# Altium footprint library Connector-Header.PcbLib: 107 footprints (part 3 of 7)
Each footprint in its own frame and in the unit in brackets; x right, y up, seen from the top. Pads: shape width x height; smd on the part's side, far side on the other; paste and mask are expansions set on the pad; w line width, h text height; cw(c..) or ccw(c..) is an arc to the next point about the centre after c.
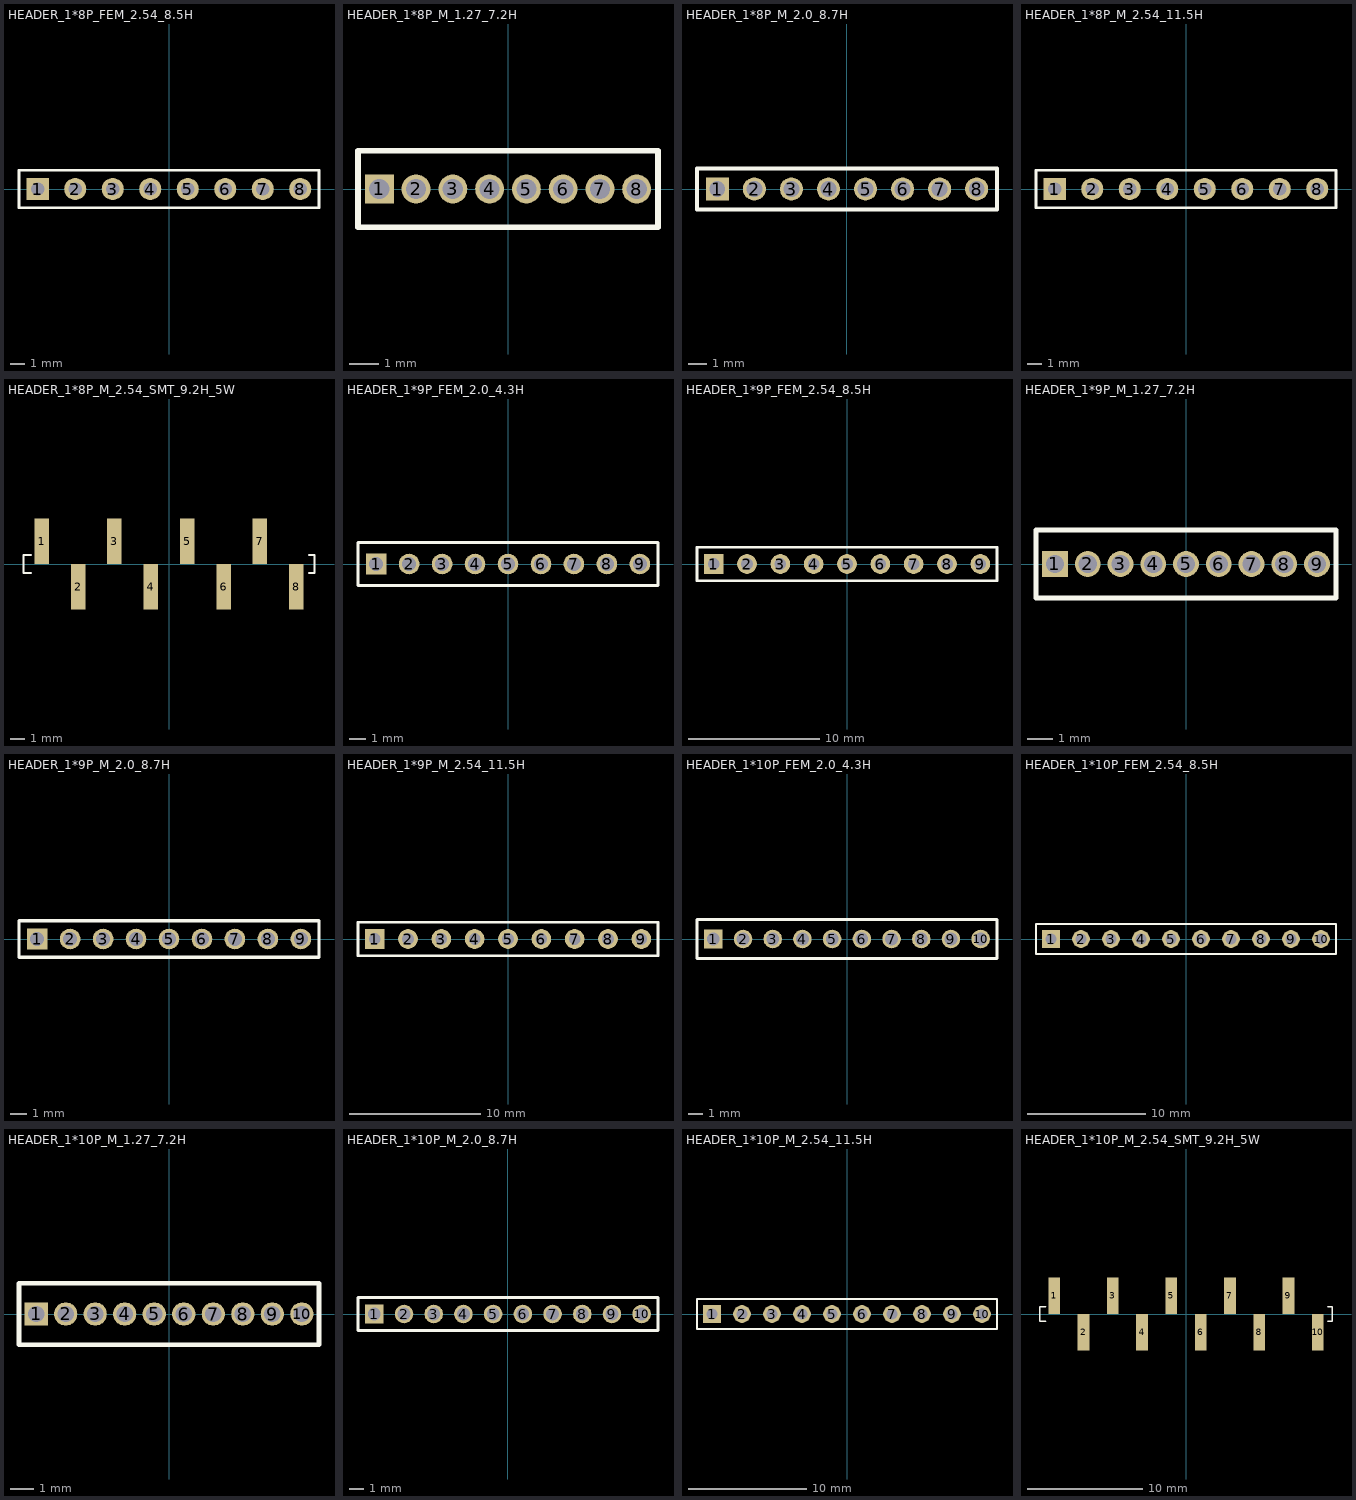
[diagram p2: the footprints below, top view; thin cyan lines are the x and y axes]

## HEADER_1*8P_FEM_2.54_8.5H [mm] "Connector; Header; 8 Position"
pads (8):
  rect 1.5x1.5 hole 0.9: 1(-8.89,0)
  round 1.5 hole 0.9: 2(-6.35,0) 3(-3.81,0) 4(-1.27,0) 5(1.27,0) 6(3.81,0) 7(6.35,0) 8(8.89,0)
Top Overlay:
  lines w0.2: -10.16,-1.27 10.16,-1.27 10.16,1.27 -10.16,1.27 -10.16,-1.27

## HEADER_1*8P_M_1.27_7.2H [mm]
pads (8):
  rect 1x1 hole 0.7: 1(-4.445,0)
  round 1 hole 0.7: 2(-3.175,0) 3(-1.905,0) 4(-0.635,0) 5(0.635,0) 6(1.905,0) 7(3.175,0) 8(4.445,0)
Top Overlay:
  lines w0.203: -5.182,-1.321 5.182,-1.321 5.182,1.321 -5.182,1.321 -5.182,-1.321

## HEADER_1*8P_M_2.0_8.7H [mm]
pads (8):
  rect 1.25x1.25 hole 0.85: 1(-7,0)
  round 1.25 hole 0.85: 2(-5,0) 3(-3,0) 4(-1,0) 5(1,0) 6(3,0) 7(5,0) 8(7,0)
Top Overlay:
  lines w0.203: -8.1,-1.1 -8.1,1.1 8.1,1.1 8.1,-1.1 -8.1,-1.1

## HEADER_1*8P_M_2.54_11.5H [mm] "Connector; Header; 8 Position"
pads (8):
  rect 1.5x1.5 hole 0.9: 1(-8.89,0)
  round 1.5 hole 0.9: 2(-6.35,0) 3(-3.81,0) 4(-1.27,0) 5(1.27,0) 6(3.81,0) 7(6.35,0) 8(8.89,0)
Top Overlay:
  lines w0.2: -10.16,-1.27 10.16,-1.27 10.16,1.27 -10.16,1.27 -10.16,-1.27
3D body "Header_Male_8Pin.STEP": height 8.54, standoff -3, extent -10.16,-1.245 10.16,1.245

## HEADER_1*8P_M_2.54_SMT_9.2H_5W [mm]
pads (8):
  rect 1.02x3.17 smd: 1(-8.89,1.585) 2(-6.35,-1.585) 3(-3.81,1.585) 4(-1.27,-1.585) 5(1.27,1.585) 6(3.81,-1.585) 7(6.35,1.585) 8(8.89,-1.585)
Top Overlay:
  lines w0.152: -9.652,-0.635 -10.16,-0.635 -10.16,0.635 -9.652,0.635 ; 9.779,-0.635 10.16,-0.635 10.16,0.635 9.779,0.635

## HEADER_1*9P_FEM_2.0_4.3H [mm]
pads (9):
  rect 1.25x1.25 hole 0.85: 1(-8,0)
  round 1.25 hole 0.85: 2(-6,0) 3(-4,0) 4(-2,0) 5(0,0) 6(2,0) 7(4,0) 8(6,0) 9(8,0)
Top Overlay:
  lines w0.203: -9.1,-1.3 9.1,-1.3 9.1,1.3 -9.1,1.3 -9.1,-1.3

## HEADER_1*9P_FEM_2.54_8.5H [mm] "Connector; Header; 9 Position"
pads (9):
  rect 1.5x1.5 hole 0.9: 1(-10.16,0)
  round 1.5 hole 0.9: 2(-7.62,0) 3(-5.08,0) 4(-2.54,0) 5(0,0) 6(2.54,0) 7(5.08,0) 8(7.62,0) 9(10.16,0)
Top Overlay:
  lines w0.2: -11.43,-1.27 11.43,-1.27 11.43,1.27 -11.43,1.27 -11.43,-1.27

## HEADER_1*9P_M_1.27_7.2H [mm]
pads (9):
  rect 1x1 hole 0.7: 1(-5.08,0)
  round 1 hole 0.7: 2(-3.81,0) 3(-2.54,0) 4(-1.27,0) 5(0,0) 6(1.27,0) 7(2.54,0) 8(3.81,0) 9(5.08,0)
Top Overlay:
  lines w0.203: -5.817,-1.321 -5.817,1.321 5.817,1.321 5.817,-1.321 -5.817,-1.321

## HEADER_1*9P_M_2.0_8.7H [mm]
pads (9):
  rect 1.25x1.25 hole 0.85: 1(-8,0)
  round 1.25 hole 0.85: 2(-6,0) 3(-4,0) 4(-2,0) 5(0,0) 6(2,0) 7(4,0) 8(6,0) 9(8,0)
Top Overlay:
  lines w0.203: -9.1,-1.1 -9.1,1.1 9.1,1.1 9.1,-1.1 -9.1,-1.1

## HEADER_1*9P_M_2.54_11.5H [mm] "Connector; Header; 9 Position"
pads (9):
  rect 1.5x1.5 hole 0.9: 1(-10.16,0)
  round 1.5 hole 0.9: 2(-7.62,0) 3(-5.08,0) 4(-2.54,0) 5(0,0) 6(2.54,0) 7(5.08,0) 8(7.62,0) 9(10.16,0)
Top Overlay:
  lines w0.2: -11.43,-1.27 11.43,-1.27 11.43,1.27 -11.43,1.27 -11.43,-1.27
3D body "Header_Male_9Pin.STEP": height 8.54, standoff -3, extent -11.43,-1.245 11.43,1.245

## HEADER_1*10P_FEM_2.0_4.3H [mm]
pads (10):
  rect 1.25x1.25 hole 0.85: 1(-9,0)
  round 1.25 hole 0.85: 2(-7,0) 3(-5,0) 4(-3,0) 5(-1,0) 6(1,0) 7(3,0) 8(5,0) 9(7,0) 10(9,0)
Top Overlay:
  lines w0.203: -10.1,-1.3 10.1,-1.3 10.1,1.3 -10.1,1.3 -10.1,-1.3

## HEADER_1*10P_FEM_2.54_8.5H [mm] "Connector; Header; 10 Position"
pads (10):
  rect 1.5x1.5 hole 0.9: 1(-11.43,0)
  round 1.5 hole 0.9: 2(-8.89,0) 3(-6.35,0) 4(-3.81,0) 5(-1.27,0) 6(1.27,0) 7(3.81,0) 8(6.35,0) 9(8.89,0) 10(11.43,0)
Top Overlay:
  lines w0.2: -12.7,-1.27 12.7,-1.27 12.7,1.27 -10.795,1.27 -12.7,1.27 -12.7,-1.27

## HEADER_1*10P_M_1.27_7.2H [mm]
pads (10):
  rect 1x1 hole 0.7: 1(-5.715,0)
  round 1 hole 0.7: 2(-4.445,0) 3(-3.175,0) 4(-1.905,0) 5(-0.635,0) 6(0.635,0) 7(1.905,0) 8(3.175,0) 9(4.445,0) 10(5.715,0)
Top Overlay:
  lines w0.203: -6.452,-1.321 6.452,-1.321 6.452,1.321 -6.452,1.321 -6.452,-1.321

## HEADER_1*10P_M_2.0_8.7H [mm]
pads (10):
  rect 1.25x1.25 hole 0.85: 1(-9,0)
  round 1.25 hole 0.85: 2(-7,0) 3(-5,0) 4(-3,0) 5(-1,0) 6(1,0) 7(3,0) 8(5,0) 9(7,0) 10(9,0)
Top Overlay:
  lines w0.203: -10.1,-1.1 -10.1,1.1 10.1,1.1 10.1,-1.1 -10.1,-1.1

## HEADER_1*10P_M_2.54_11.5H [mm] "Connector; Header; 10 Position"
pads (10):
  rect 1.5x1.5 hole 0.9: 1(-11.43,0)
  round 1.5 hole 0.9: 2(-8.89,0) 3(-6.35,0) 4(-3.81,0) 5(-1.27,0) 6(1.27,0) 7(3.81,0) 8(6.35,0) 9(8.89,0) 10(11.43,0)
Top Overlay:
  lines w0.2: -12.7,-1.27 12.7,-1.27 12.7,1.27 -10.795,1.27 -12.7,1.27 -12.7,-1.27
3D body "Header_Male_10Pin.STEP": height 8.54, standoff -3, extent -12.7,-1.245 12.7,1.245

## HEADER_1*10P_M_2.54_SMT_9.2H_5W [mm]
pads (10):
  rect 1.02x3.17 smd: 1(-11.43,1.585) 2(-8.89,-1.585) 3(-6.35,1.585) 4(-3.81,-1.585) 5(-1.27,1.585) 6(1.27,-1.585) 7(3.81,1.585) 8(6.35,-1.585) 9(8.89,1.585) 10(11.43,-1.585)
Top Overlay:
  lines w0.152: -12.192,-0.635 -12.7,-0.635 ; -12.192,0.635 -12.7,0.635 ; 12.319,-0.635 12.7,-0.635 12.7,0.635 12.319,0.635 ; -12.7,-0.635 -12.7,0.635 ; -12.7,-0.635 -12.7,0.635